# EAGLE library part TMC239A-LA (library trinamic)
TRINAMIC Smart Power Microstepping PWM Motor Driver with external power transistors Information given in this library is believed to be accurate and reliable. However no warranty is given for its correctness. Datasheet for TMC239 <http://www.trinamic.com/tmc/media/Downloads/integrated_circuits/Tmc239/TMC239_datasheet.pdf> Description Smart Power Microstepping PWM Motor Driver with external power transistors and protection, diagnostics and SPI Interface The TMC239 is a smart high current microstepping driver for bipolar stepper motors. It provides an SPI™ interface as well as the classical analog / digital control. A full set of protection and diagnostic features makes this device very rugged. It directly drives external MOSFETs for currents up to 6A. This way it reaches an extremely high efficiency and allows driving of a high motor current without cooling measures even at high environment temperatures. With the new chip-scale QFN package a 4A motor driver can be realized on the size of a stamp! The high motor current makes this device ideal for miniaturized highly dynamic and high torque drive systems. Specifications 2-phase bipolar stepper motor driver Control via SPI with easy-to-use 12 bit protocol or external analog / digital signals Short circuit and over temperature protection integrated Overvoltage protection integrated (A-type) Status flags for overcurrent, open load, over temperature, temperature pre-warning, undervoltage Integrated 4 bit DACs allow up to 16 times microstepping via SPI, any resolution via analog control Mixed decay feature for smooth motor operation Slope control user programmable to reduce electromagnetic emissions Chopper frequency programmable via a single capacitor or external clock Current control allows cool motor and driver operation Internal open load detector 7V to 34V motor supply voltage More than 6000mA using 8 external MOS transistors External drivers can be added for higher motor voltages and higher currents (e.g. 50V, 5A) Only 4 external PMOS transistors required for unipolar operation 3.3V or 5V operation for digital part Low power consumption via low RDS-ON power stage Standby and shutdown mode available
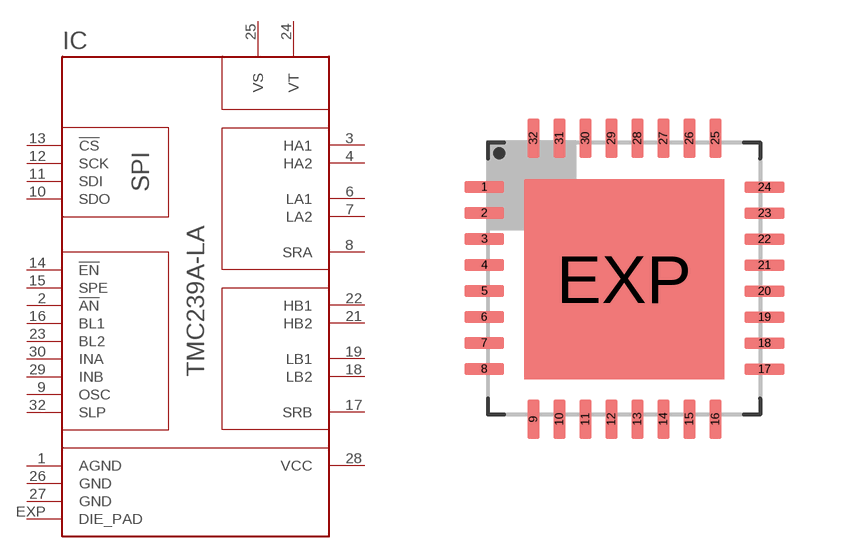
[diagram p16: symbol with the pads of QFN32_7X7; footprint QFN32_7X7]

Designator prefix IC

## TMC239A-LA  [QFN32_7X7]
1  AGND  in
2  !AN  in
3  HA1  out
4  HA2  out
6  LA1  out
7  LA2  out
8  SRA  in
9  OSC  in
10  SDO  hiz
11  SDI  in
12  SCK  in
13  !CS  in
14  !EN  in
15  SPE  in
16  BL1  in
17  SRB  in
18  LB2  out
19  LB1  out
21  HB2  out
22  HB1  out
23  BL2  in
24  VT  in
25  VS  in
26  GND  in
27  GND  in
28  VCC  in
29  INB  in
30  INA  in
32  SLP  in
EXP  DIE_PAD  in

## Footprint QFN32_7X7 (pad centres in mm)
smd 1 x 0.3: 1 -3.505,2.28; 2 -3.505,1.63; 3 -3.505,0.98; 4 -3.505,0.33; 5 -3.505,-0.32; 6 -3.505,-0.97; 7 -3.505,-1.62; 8 -3.505,-2.27; 17 3.5,-2.275; 18 3.5,-1.625; 19 3.5,-0.975; 20 3.5,-0.325; 21 3.5,0.325; 22 3.5,0.975; 23 3.5,1.625; 24 3.5,2.275
smd 0.3 x 1: 9 -2.275,-3.525; 10 -1.625,-3.525; 11 -0.975,-3.525; 12 -0.325,-3.525; 13 0.325,-3.525; 14 0.975,-3.525; 15 1.625,-3.525; 16 2.275,-3.525; 25 2.275,3.5; 26 1.625,3.5; 27 0.975,3.5; 28 0.325,3.5; 29 -0.325,3.5; 30 -0.975,3.5; 31 -1.625,3.5; 32 -2.275,3.5
smd 5 x 5: EXP -0.01,-0.02